# Altium footprint library Misc.PcbLib: 133 footprints (part 5 of 9)
Each footprint in its own frame and in the unit in brackets; x right, y up, seen from the top. Pads: shape width x height; smd on the part's side, far side on the other; paste and mask are expansions set on the pad; w line width, h text height; cw(c..) or ccw(c..) is an arc to the next point about the centre after c.
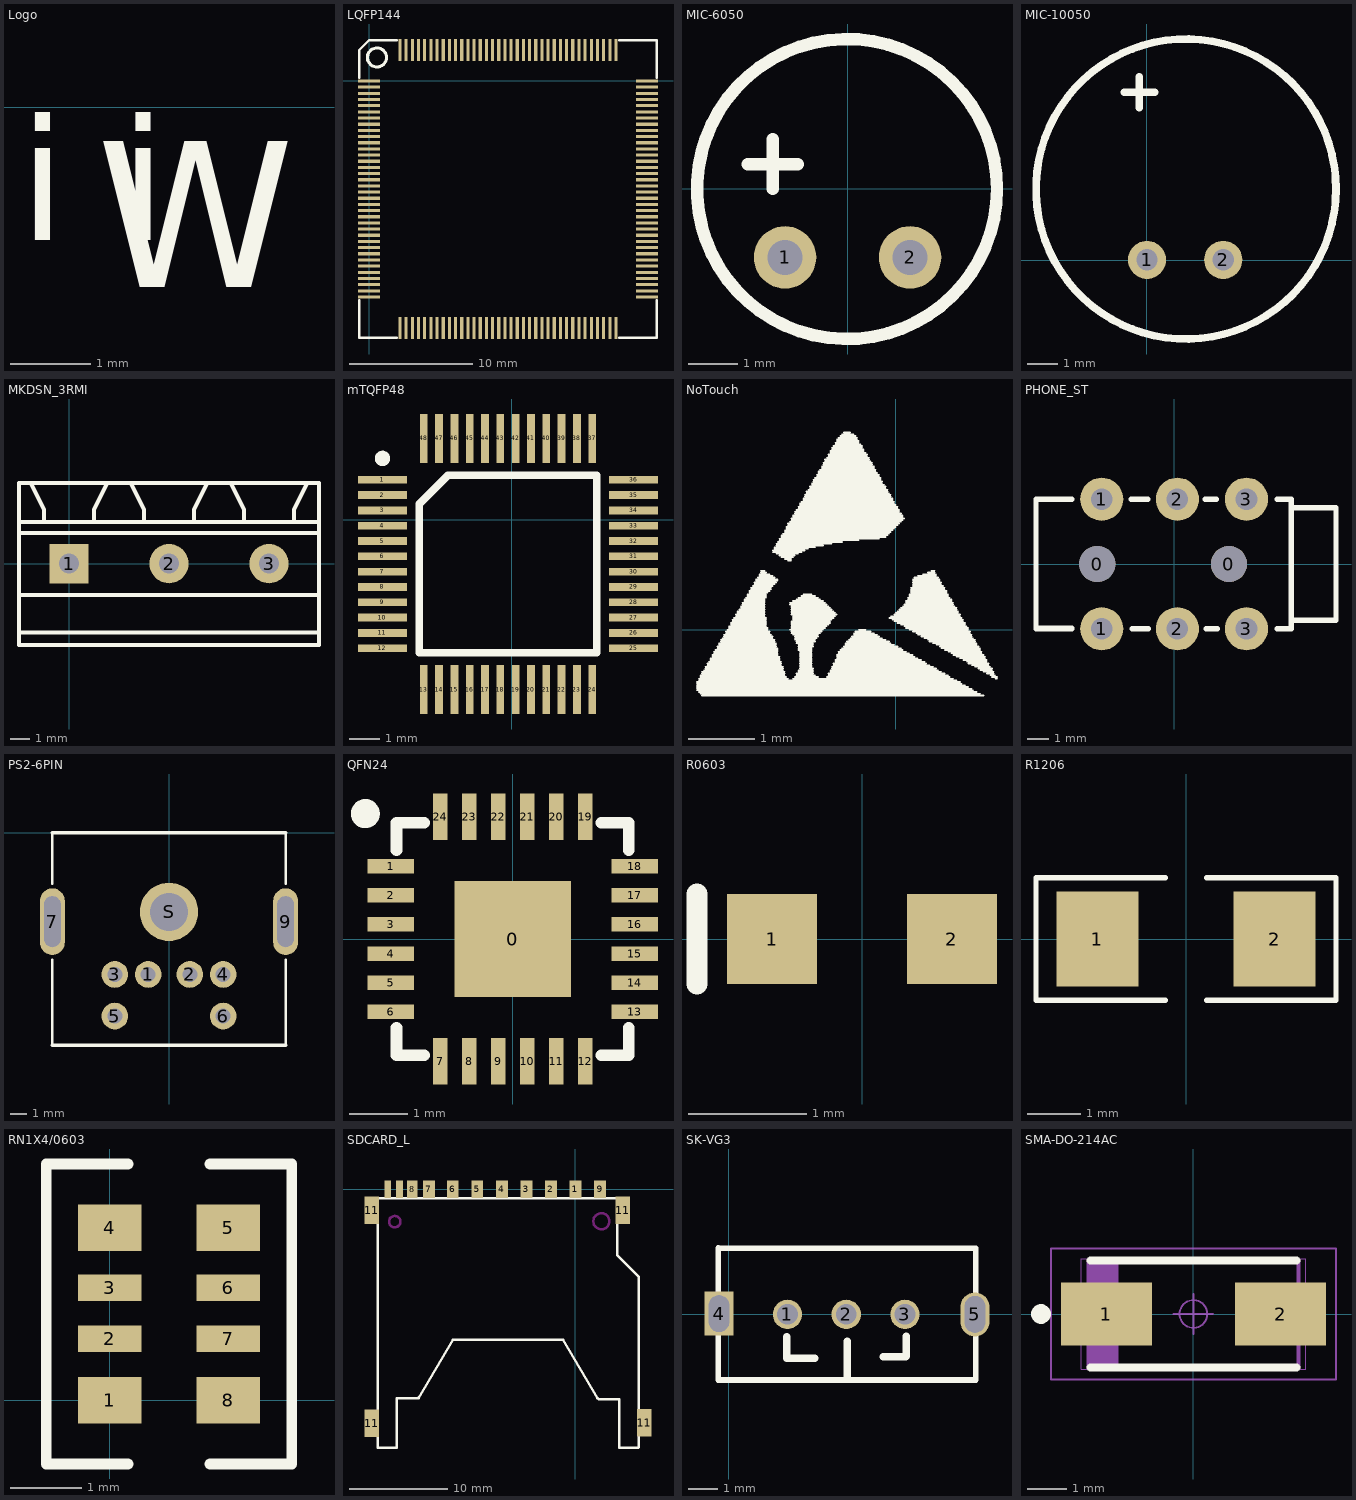
[diagram p4: the footprints below, top view; thin cyan lines are the x and y axes]

## Logo [mm]
Top Overlay:
  text "W" at 30.048,-2.235 h2.03
  text "i i" at 29.083,-1.651 h1.52

## LQFP144 [mm]
pads (144):
  rect 1.8x0.254 smd: 1(-0.009,0.001) 2(-0.009,-0.499) 3(-0.009,-0.999) 4(-0.009,-1.499) 5(-0.009,-1.999) 6(-0.009,-2.499) 7(-0.009,-2.999) 8(-0.009,-3.499) 9(-0.009,-3.999) 10(-0.009,-4.499) 11(-0.009,-4.999) 12(-0.009,-5.499) 13(-0.009,-5.999) 14(-0.009,-6.499) 15(-0.009,-6.999) 16(-0.009,-7.499) 17(-0.009,-7.999) 18(-0.009,-8.499) 19(-0.009,-8.999) 20(-0.009,-9.499) 21(-0.009,-9.999) 22(-0.009,-10.499) 23(-0.009,-10.999) 24(-0.009,-11.499) 25(-0.009,-11.999) 26(-0.009,-12.499) 27(-0.009,-12.999) 28(-0.009,-13.499) 29(-0.009,-13.999) 30(-0.009,-14.499) 31(-0.009,-14.999) 32(-0.009,-15.499) 33(-0.009,-15.999) 34(-0.009,-16.499) 35(-0.009,-16.999) 36(-0.009,-17.499) 73(22.491,-17.499) 74(22.491,-16.999) 75(22.491,-16.499) 76(22.491,-15.999) 77(22.491,-15.499) 78(22.491,-14.999) 79(22.491,-14.499) 80(22.491,-13.999) 81(22.491,-13.499) 82(22.491,-12.999) 83(22.491,-12.499) 84(22.491,-11.999) 85(22.491,-11.499) 86(22.491,-10.999) 87(22.491,-10.499) 88(22.491,-9.999) 89(22.491,-9.499) 90(22.491,-8.999) 91(22.491,-8.499) 92(22.491,-7.999) 93(22.491,-7.499) 94(22.491,-6.999) 95(22.491,-6.499) 96(22.491,-5.999) 97(22.491,-5.499) 98(22.491,-4.999) 99(22.491,-4.499) 100(22.491,-3.999) 101(22.491,-3.499) 102(22.491,-2.999) 103(22.491,-2.499) 104(22.491,-1.999) 105(22.491,-1.499) 106(22.491,-0.999) 107(22.491,-0.499) 108(22.491,0.001)
  rect 0.254x1.8 smd: 37(2.491,-19.999) 38(2.991,-19.999) 39(3.491,-19.999) 40(3.991,-19.999) 41(4.491,-19.999) 42(4.991,-19.999) 43(5.491,-19.999) 44(5.991,-19.999) 45(6.491,-19.999) 46(6.991,-19.999) 47(7.491,-19.999) 48(7.991,-19.999) 49(8.491,-19.999) 50(8.991,-19.999) 51(9.491,-19.999) 52(9.991,-19.999) 53(10.491,-19.999) 54(10.991,-19.999) 55(11.491,-19.999) 56(11.991,-19.999) 57(12.491,-19.999) 58(12.991,-19.999) 59(13.491,-19.999) 60(13.991,-19.999) 61(14.491,-19.999) 62(14.991,-19.999) 63(15.491,-19.999) 64(15.991,-19.999) 65(16.491,-19.999) 66(16.991,-19.999) 67(17.491,-19.999) 68(17.991,-19.999) 69(18.491,-19.999) 70(18.991,-19.999) 71(19.491,-19.999) 72(19.991,-19.999) 109(19.991,2.501) 110(19.491,2.501) 111(18.991,2.501) 112(18.491,2.501) 113(17.991,2.501) 114(17.491,2.501) 115(16.991,2.501) 116(16.491,2.501) 117(15.991,2.501) 118(15.491,2.501) 119(14.991,2.501) 120(14.491,2.501) 121(13.991,2.501) 122(13.491,2.501) 123(12.991,2.501) 124(12.491,2.501) 125(11.991,2.501) 126(11.491,2.501) 127(10.991,2.501) 128(10.491,2.501) 129(9.991,2.501) 130(9.491,2.501) 131(8.991,2.501) 132(8.491,2.501) 133(7.991,2.501) 134(7.491,2.501) 135(6.991,2.501) 136(6.491,2.501) 137(5.991,2.501) 138(5.491,2.501) 139(4.991,2.501) 140(4.491,2.501) 141(3.991,2.501) 142(3.491,2.501) 143(2.991,2.501) 144(2.491,2.501)
Top Overlay:
  circle w0.254: c0.624,1.905 r0.773
  lines w0.2: -0.809,-17.749 -0.809,-20.799 2.241,-20.799 ; -0.809,0.251 -0.809,2.501 -0.009,3.301 2.241,3.301 ; 20.241,-20.799 23.291,-20.799 23.291,-17.749 ; 20.241,3.301 23.291,3.301 23.291,0.251

## MIC-6050 [mil] "Mic 6050"
height 196.85
pads (2):
  round 50 hole 28: 1(-50,-55) 2(50,-55)
Top Overlay:
  circle w10: c-0.42,-0.29 r120.02
  lines w10: -80,19.71 -40,19.71 ; -60,-0.29 -60,39.71

## MIC-10050 [mil]
pads (2):
  round 50 hole 28: 1(0.42,0.29) 2(100.42,0.29)
Top Overlay:
  circle w10: c51.58,93.29 r196.85
  lines w10: -29.58,220.29 10.42,220.29 ; -9.58,200.29 -9.58,240.29

## MKDSN_3RMI [mm]
pads (3):
  rect 2x2 hole 1: 1(0,0)
  round 2 hole 1: 2(5.08,0) 3(10.16,0)
Top Overlay:
  lines w0.203: -2.54,-3.514 12.7,-3.514 ; -2.54,-1.609 12.7,-1.609 ; -2.54,1.566 12.7,1.566 ; -2.54,2.117 12.7,2.117 ; -1.905,4.022 -1.27,2.752 -1.27,2.117 ; 1.27,2.117 1.27,2.752 1.905,4.022 ; 3.175,4.022 3.81,2.752 3.81,2.117 ; 6.35,2.117 6.35,2.752 6.985,4.022 ; 8.255,4.022 8.89,2.752 8.89,2.117 ; 11.43,2.117 11.43,2.752 12.065,4.022 ; -2.54,-4.149 12.7,-4.149 12.7,4.106 -2.54,4.106 -2.54,-4.149

## mTQFP48 [mm]
pads (48):
  rect 1.6x0.254 smd: 1(-4.223,1.3) 2(-4.223,0.8) 3(-4.223,0.3) 4(-4.223,-0.2) 5(-4.223,-0.7) 6(-4.223,-1.2) 7(-4.223,-1.7) 8(-4.223,-2.2) 9(-4.223,-2.7) 10(-4.223,-3.2) 11(-4.223,-3.7) 12(-4.223,-4.2) 25(3.977,-4.2) 26(3.977,-3.7) 27(3.977,-3.2) 28(3.977,-2.7) 29(3.977,-2.2) 30(3.977,-1.7) 31(3.977,-1.2) 32(3.977,-0.7) 33(3.977,-0.2) 34(3.977,0.3) 35(3.977,0.8) 36(3.977,1.3)
  rect 0.254x1.6 smd: 13(-2.873,-5.55) 14(-2.373,-5.55) 15(-1.873,-5.55) 16(-1.373,-5.55) 17(-0.873,-5.55) 18(-0.373,-5.55) 19(0.127,-5.55) 20(0.627,-5.55) 21(1.127,-5.55) 22(1.627,-5.55) 23(2.127,-5.55) 24(2.627,-5.55) 37(2.627,2.65) 38(2.127,2.65) 39(1.627,2.65) 40(1.127,2.65) 41(0.627,2.65) 42(0.127,2.65) 43(-0.373,2.65) 44(-0.873,2.65) 45(-1.373,2.65) 46(-1.873,2.65) 47(-2.373,2.65) 48(-2.873,2.65)
Top Overlay:
  circle w0.25: c-4.223,2 r0.125
  lines w0.2: -3.023,-4.35 2.777,-4.35 2.777,1.45
  lines w0.254: -3.023,0.508 -2.081,1.45 ; -3.023,0.508 -3.023,-4.35 2.777,-4.35 2.777,1.45 -1.397,1.45 -2.081,1.45 ; -3.023,0.508 -2.081,1.45

## NoTouch [mm]
Top Overlay:
  drawing of 297 lines, arcs and shapes, not listed

## PHONE_ST [mm]
pads (8):
  round 1.676 hole 1.676: 0(-3.556,0) 0(2.54,0)
  round 2 hole 1: 1(-3.35,-3) 1(-3.35,3) 2(0.15,-3) 2(0.15,3) 3(3.35,-3) 3(3.35,3)
Top Overlay:
  lines w0.254: -6.393,-2.969 -4.742,-2.969 ; -4.742,-3.007 -6.393,-3.007 -6.393,3 -4.742,3 ; -1.986,3 -1.224,3 ; -1.948,-3.007 -1.186,-3.007 ; 1.443,3 1.951,3 ; 1.481,-3.007 1.989,-3.007 ; 4.783,-3.007 5.33,-3.007 ; 4.783,3 5.418,3 5.418,-3.007 ; 5.418,-2.6 7.493,-2.6 7.493,2.6 5.418,2.6

## PS2-6PIN [mm]
pads (9):
  round 1.6 hole 0.9: 1(-1.25,-8.5) 2(1.25,-8.5) 3(-3.25,-8.5) 4(3.25,-8.5) 5(-3.25,-11) 6(3.25,-11)
  oval 1.5x4 hole 1 slot 3.048 at 90 deg: 7(-7,-5.334) 9(7,-5.334)
  round 3.5 hole 2.3: S(0,-4.75)
Top Overlay:
  lines w0.152: -7,-12.75 -7,-7.62 ; -7,-3.048 -7,0 ; 7,-12.75 7,-7.62 ; 7,-3.048 7,0
  lines w0.2: -7,-12.75 7,-12.75 ; -7,0 7,0

## QFN24 [mm]
pads (25):
  rect 2x2 smd: 0(0,0)
  rect 0.8x0.25 smd: 1(-2.101,1.25) 2(-2.101,0.75) 3(-2.101,0.25) 4(-2.101,-0.25) 5(-2.101,-0.75) 6(-2.101,-1.25) 13(2.101,-1.25) 14(2.101,-0.75) 15(2.101,-0.25) 16(2.101,0.25) 17(2.101,0.75) 18(2.101,1.25)
  rect 0.25x0.8 smd: 7(-1.25,-2.101) 8(-0.75,-2.101) 9(-0.25,-2.101) 10(0.25,-2.101) 11(0.75,-2.101) 12(1.25,-2.101) 19(1.25,2.101) 20(0.75,2.101) 21(0.25,2.101) 22(-0.25,2.101) 23(-0.75,2.101) 24(-1.25,2.101)
Top Overlay:
  circle w0.25: c-2.538,2.159 r0.125
  lines w0.2: -2,-1.525 -2,-2 -1.525,-2 ; -2,1.525 -2,2 -1.525,2 ; 1.525,-2 2,-2 2,-1.525 ; 1.525,2 2,2 2,1.525

## R0603 [mil]
pads (2):
  rect 30x30 smd: 1(-30,0) 2(30,0)
Top Overlay:
  lines w7: -55,-15 -55,15
3D body: height 17.72, standoff 0, extent -31,-16 32,15.5

## R1206 [mil]
height 153.54
pads (2):
  rect 60x70 smd: 1(-65,0) 2(65,0)
Top Overlay:
  lines w3.94: -15,-45 -110,-45 -110,45 -15,45 ; 15,-45 110,-45 110,45 15,45
3D body: height 23.62, standoff 0, extent -62.5,-31 63.49,32

## RN1X4/0603 [mil]
height 200
pads (8):
  rect 35x25.59 smd: 1(0,0) 4(0,95) 5(65,95) 8(65,0)
  rect 35x14.57 smd: 2(0,33.86) 3(0,62) 6(65,62) 7(65,33.86)
Top Overlay:
  lines w6: -35,120 -35,130 -10,130 10,130 ; -35,125 -35,-35 10,-35 ; 55,-35 100,-35 100,125 100,130 55,130

## SDCARD_L [mm]
pads (15):
  rect 1.2x1.8 smd: 1(0,0) 2(-2.489,0) 3(-4.983,-0.009) 4(-7.483,-0.009) 5(-9.983,-0.009) 6(-12.483,-0.009) 7(-14.908,-0.009) 9(2.517,-0.009)
  rect 1.1x1.8 smd: 8(-16.612,0)
  rect 0.7x1.8 smd: 10(-17.908,-0.009) 12(-19.101,0)
  rect 1.5x2.8 smd: 11(-20.726,-23.834) 11(-20.726,-2.143) 11(4.826,-2.143) 11(7.01,-23.784)
Top Overlay:
  lines w0.254: -18.158,-21.3 -18.158,-26.3 -20.131,-26.3 -20.131,-0.914 -20.117,-0.9 4.242,-0.9 4.242,-6.71 6.431,-8.899 6.442,-8.899 6.442,-26.273 6.415,-26.3 4.442,-26.3 4.442,-21.402 2.4,-21.402 2.242,-21.244 ; -18.107,-21.294 -16.065,-21.294 -15.907,-21.136 ; -15.958,-21.294 -12.446,-15.3 ; -12.458,-15.3 -1.258,-15.3 2.242,-21.294
Keep-Out Layer:
  circle w0.254: c-18.39,-3.3 r0.58
  circle w0.254: c2.642,-3.26 r0.82

## SK-VG3 [mm] "8.7*4.5M"
pads (5):
  round 1 hole 0.7: 1(2,0) 2(4,0) 3(6,0)
  rect 1x1.5 hole 0.7 slot 1.25 at 90 deg: 4(-0.33,0.025)
  oval 1x1.5 hole 0.7 slot 1.25 at 90 deg: 5(8.382,0)
Top Overlay:
  lines w0.2: -0.356,2.25 8.407,2.25 8.407,-2.235 -0.356,-2.235 -0.356,2.261
  lines w0.254: 1.981,-0.762 1.981,-1.499 2.921,-1.499 ; 4.013,-2.184 4.039,-2.159 4.039,-0.914 ; 5.258,-1.448 6.02,-1.448 6.045,-1.422 6.045,-0.737

## SMA-DO-214AC [mm]
pads (2):
  rect 2.3x1.6 smd: 1(-2.2,0) 2(2.2,0)
Top Overlay:
  circle w0.25: c-3.85,0 r0.125
  lines w0.2: -2.6,-1.35 2.6,-1.35 ; -2.6,1.35 2.6,1.35
Mechanical 15:
  lines w0.1: -2.548,-1.335 -2.548,1.335 ; -2.448,-1.335 -2.448,1.335 ; -2.348,-1.335 -2.348,1.335 ; -2.248,-1.335 -2.248,1.335 ; -2.148,-1.335 -2.148,1.335 ; -2.047,-1.335 -2.047,1.335 ; -1.948,-1.335 -1.948,1.335 ; -2.648,-1.335 2.648,-1.335 2.648,1.335 -2.648,1.335 -2.648,-1.335
Mechanical 16:
  circle w0.05: c0,0 r0.35
  lines w0.001: -2.83,-1.4 2.83,-1.4 2.83,1.4 -2.83,1.4 -2.83,-1.4
  lines w0.05: -0.5,0 0.5,0 ; 0,-0.5 0,0.5 ; -3.6,-1.65 3.6,-1.65 3.6,1.65 -3.6,1.65 -3.6,-1.65